# Altium schematic symbol library PCB_Frames.SchLib: 1 symbol
Pins are listed as number, name and electrical type; pins without a type are passive.

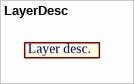
[diagram p0: symbol LayerDesc]

## LayerDesc
designator D?  (value not drawn)
footprint Top
footprint Bottom
footprint Inner_1
footprint Inner_2
footprint Inner_3
footprint Inner_4
footprint Bottom_overlay
footprint Top_overlay
text: Layer desc.